# Altium schematic symbol library ECG2.0.SchLib: 8 symbols
Pins are listed as number, name and electrical type; pins without a type are passive.

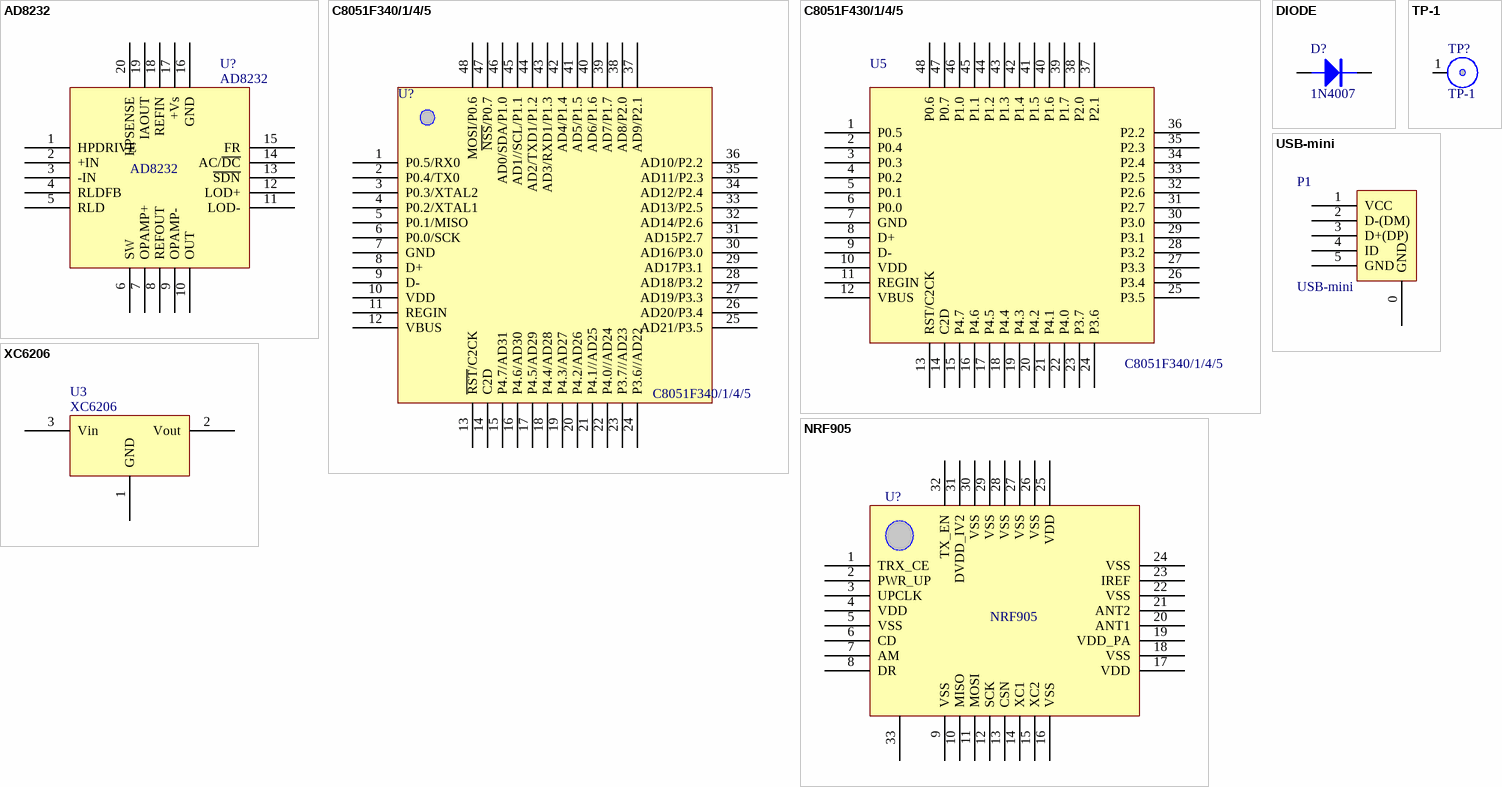
[diagram p0: symbols AD8232 to XC6206]

## AD8232
designator U?
footprint SOIC8
pins: 1 HPDRIVE, 2 +IN, 3 -IN, 4 RLDFB, 5 RLD, 6 SW, 7 OPAMP+, 8 REFOUT, 9 OPAMP-, 10 OUT, 11 LOD-, 12 LOD+, 13 ~{SDN}, 14 AC/~{DC}, 15 FR, 16 GND, 17 +Vs, 18 REFIN, 19 IAOUT, 20 HPSENSE

## C8051F340/1/4/5
designator U?
footprint QFP127P600-8N
pins: 1 P0.5/RX0, 2 P0.4/TX0, 3 P0.3/XTAL2, 4 P0.2/XTAL1, 5 P0.1/MISO, 6 P0.0/SCK, 7 GND, 8 D+, 9 D-, 10 VDD, 11 REGIN, 12 VBUS, 13 ~{RST}/C2CK, 14 C2D, 15 P4.7/AD31, 16 P4.6/AD30, 17 P4.5/AD29, 18 P4.4/AD28, 19 P4.3/AD27, 20 P4.2/AD26, 21 P4.1//AD25, 22 P4.0//AD24, 23 P3.7//AD23, 24 P3.6//AD22, 25 AD21/P3.5, 26 AD20/P3.4, 27 AD19/P3.3, 28 AD18/P3.2, 29 AD17P3.1, 30 AD16/P3.0, 31 AD15P2.7, 32 AD14/P2.6, 33 AD13/P2.5, 34 AD12/P2.4, 35 AD11/P2.3, 36 AD10/P2.2, 37 AD9/P2.1, 38 AD8/P2.0, 39 AD7/P1.7, 40 AD6/P1.6, 41 AD5/P1.5, 42 AD4/P1.4, 43 AD3/RXD1/P1.3, 44 AD2/TXD1/P1.2, 45 AD1//SCL/P1.1, 46 AD0/SDA/P1.0, 47 ~{NSS}/P0.7, 48 MOSI/P0.6

## C8051F430/1/4/5
designator U5, comment C8051F340/1/4/5
footprint QFP127P600-8N
pins: 1 P0.5, 2 P0.4, 3 P0.3, 4 P0.2, 5 P0.1, 6 P0.0, 7 GND, 8 D+, 9 D-, 10 VDD, 11 REGIN, 12 VBUS, 13 RST/C2CK, 14 C2D, 15 P4.7, 16 P4.6, 17 P4.5, 18 P4.4, 19 P4.3, 20 P4.2, 21 P4.1, 22 P4.0, 23 P3.7, 24 P3.6, 25 P3.5, 26 P3.4, 27 P3.3, 28 P3.2, 29 P3.1, 30 P3.0, 31 P2.7, 32 P2.6, 33 P2.5, 34 P2.4, 35 P2.3, 36 P2.2, 37 P2.1, 38 P2.0, 39 P1.7, 40 P1.6, 41 P1.5, 42 P1.4, 43 P1.3, 44 P1.2, 45 P1.1, 46 P1.0, 47 P0.7, 48 P0.6

## DIODE
designator D?, comment 1N4007
footprint 3528-D
footprint 3516-D
footprint 2215
footprint DIODE0.4
pins: 1, 2

## NRF905
designator U?
footprint QFN32_M (QFN, 32-Leads, Body 5x5mm, Pitch 0.5mm, IPC Low Density)
pins: 1 TRX_CE, 2 PWR_UP, 3 UPCLK, 4 VDD, 5 VSS, 6 CD, 7 AM, 8 DR, 9 VSS, 10 MISO, 11 MOSI, 12 SCK, 13 CSN, 14 XC1, 15 XC2, 16 VSS, 17 VDD, 18 VSS, 19 VDD_PA, 20 ANT1, 21 ANT2, 22 VSS, 23 IREF, 24 VSS, 25 VDD, 26 VSS, 27 VSS, 28 VSS, 29 VSS, 30 VSS, 31 DVDD_IV2, 32 TX_EN, 33

## TP-1
designator TP?
footprint TP-1
footprint tp-1-1
pins: 1

## USB-mini
designator P1
footprint USB-mini-A
pins: 0 GND, 1 VCC, 2 D-(DM), 3 D+(DP), 4 ID, 5 GND

## XC6206
designator U3
footprint TO-220
footprint SOT-23-123
pins: 1 GND, 2 Vout, 3 Vin